# Altium footprint library MCore.PcbLib: 45 footprints (part 2 of 3)
Each footprint in its own frame and in the unit in brackets; x right, y up, seen from the top. Pads: shape width x height; smd on the part's side, far side on the other; paste and mask are expansions set on the pad; w line width, h text height; cw(c..) or ccw(c..) is an arc to the next point about the centre after c.
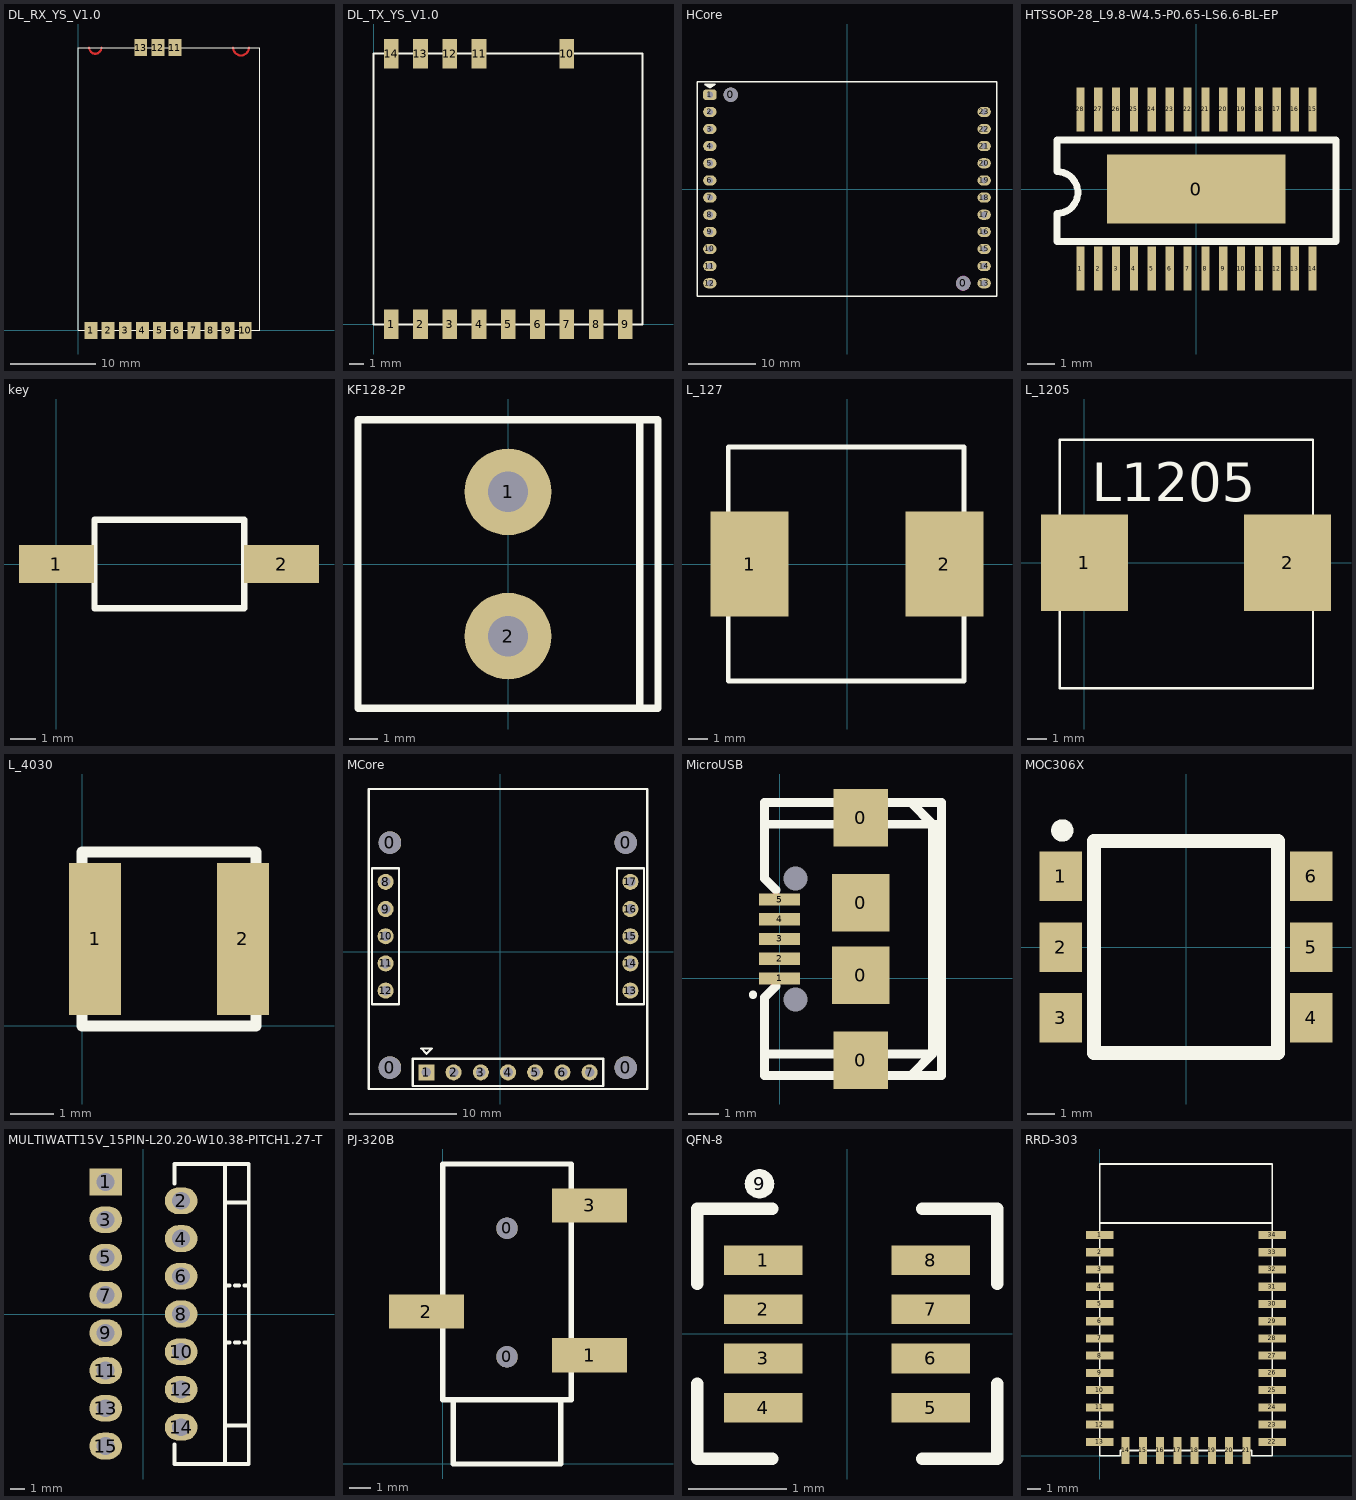
[diagram p1: the footprints below, top view; thin cyan lines are the x and y axes]

## DL_RX_YS_V1.0 [mm]
pads (13):
  rect 1.5x2 smd: 1(1.5,0) 2(3.5,0) 3(5.5,0) 4(7.5,0) 5(9.5,0) 6(11.5,0) 7(13.5,0) 8(15.5,0) 9(17.5,0) 10(19.5,0) 11(11.3,33) 12(9.3,33) 13(7.3,33)
Top Layer:
  lines w0.254: 1.282,33 ccw(c2,33) 2.718,33 ; 18.084,33 ccw(c19,33) 19.916,33
Top Overlay:
  lines w0.127: 0,0 21.2,0 21.2,33 0,33 0,0
3D body: height 1, standoff 0, extent 0,0 21.209,33.02

## DL_TX_YS_V1.0 [mm]
pads (14):
  rect 1x2 smd: 1(1.2,0) 2(3.2,0) 3(5.2,0) 4(7.2,0) 5(9.2,0) 6(11.2,0) 7(13.2,0) 8(15.2,0) 9(17.2,0) 10(13.2,18.5) 11(7.2,18.5) 12(5.2,18.5) 13(3.2,18.5) 14(1.2,18.5)
Top Overlay:
  lines w0.127: 0,0 18.36,0 18.36,18.5 0,18.5 0,0

## HCore [mm]
pads (25):
  round 2.1 hole 2.1: 0(-17.225,13.97) 0(17.225,-13.97)
  rrect50% 2x1.5 hole 0.9: 1(-20.32,13.97)
  oval 2x1.5 hole 0.9: 2(-20.32,11.43) 3(-20.32,8.89) 4(-20.32,6.35) 5(-20.32,3.81) 6(-20.32,1.27) 7(-20.32,-1.27) 8(-20.32,-3.81) 9(-20.32,-6.35) 10(-20.32,-8.89) 11(-20.32,-11.43) 12(-20.32,-13.97) 13(20.32,-13.97) 14(20.32,-11.43) 15(20.32,-8.89) 16(20.32,-6.35) 17(20.32,-3.81) 18(20.32,-1.27) 19(20.32,1.27) 20(20.32,3.81) 21(20.32,6.35) 22(20.32,8.89) 23(20.32,11.43)
Top Overlay:
  region: -21.082,15.494 -19.558,15.494 -20.32,14.986
  lines w0.2: -22.225,-15.875 22.225,-15.875 22.225,15.875 -22.225,15.875 -22.225,-15.875 ; -21.082,15.494 -19.558,15.494 -20.32,14.986 -21.082,15.494
Keep-Out Layer:
  circle w0.1: c17.225,-13.97 r1.05

## HTSSOP-28_L9.8-W4.5-P0.65-LS6.6-BL-EP [mm]
pads (29):
  rect 6.5x2.5 smd: 0(0,0)
  rect 0.3x1.6 smd: 1(-4.225,-2.9) 2(-3.575,-2.9) 3(-2.925,-2.9) 4(-2.275,-2.9) 5(-1.625,-2.9) 6(-0.975,-2.9) 7(-0.325,-2.9) 8(0.325,-2.9) 9(0.975,-2.9) 10(1.625,-2.9) 11(2.275,-2.9) 12(2.925,-2.9) 13(3.575,-2.9) 14(4.225,-2.9) 15(4.225,2.9) 16(3.575,2.9) 17(2.925,2.9) 18(2.275,2.9) 19(1.625,2.9) 20(0.975,2.9) 21(0.325,2.9) 22(-0.325,2.9) 23(-0.975,2.9) 24(-1.625,2.9) 25(-2.275,2.9) 26(-2.925,2.9) 27(-3.575,2.9) 28(-4.225,2.9)
Top Overlay:
  lines w0.254: -5.08,-1.905 5.08,-1.905 5.08,1.778 -5.08,1.778 -5.08,0.635 cw(c-5.08,-0.127) -5.08,-0.889 -5.08,-1.905

## key [mil]
height 196.85
pads (2):
  rect 118.11x60 smd: 1(0,0) 2(355,0)
Top Overlay:
  lines w10: 60,-70 60,70 296.22,70 296.22,-70 60,-70

## KF128-2P [mm]
pads (2):
  round 3 hole 1.4: 1(0,2.5) 2(0,-2.5)
Top Overlay:
  lines w0.254: 4.572,-4.953 4.572,4.953 ; -5.2,-5 -5.2,5 5.2,5 5.2,-5 -5.2,-5

## L_127 [mm]
pads (2):
  rect 4x5.4 smd: 1(-5,0) 2(5,0)
Top Overlay:
  lines w0.254: -6.096,-6 -6.096,6 6,6 6,-6 -6.096,-6

## L_1205 [mm]
height 5
pads (2):
  rect 4.5x5 smd: 1(0,0) 2(10.5,0)
Top Overlay:
  lines w0.127: -1.27,-6.477 11.811,-6.477 11.811,6.35 -1.27,6.35 -1.27,-6.4
  text "L1205" at 0.381,3.175 h2
3D body: height 5, standoff 0.1, extent -1.27,-6.477 11.811,6.35

## L_4030 [mm]
pads (2):
  rect 1.2x3.5 smd: 1(0.3,2) 2(3.7,2)
Top Overlay:
  lines w0.254: 0,0 4,0 4,4 0,4 0,0

## MCore [mm]
pads (21):
  round 2.1 hole 2.1 unplated: 0(-10.268,-10.807) 0(-10.268,10.193) 0(11.732,-10.807) 0(11.732,10.193)
  rect 1.5x1.5 hole 0.9: 1(-6.874,-11.252)
  round 1.5 hole 0.9: 2(-4.334,-11.252) 3(-1.794,-11.252) 4(0.746,-11.252) 5(3.286,-11.252) 6(5.826,-11.252) 7(8.366,-11.252) 8(-10.683,6.528) 9(-10.683,3.988) 10(-10.683,1.448) 11(-10.683,-1.092) 12(-10.683,-3.632) 13(12.177,-3.632) 14(12.177,-1.092) 15(12.177,1.448) 16(12.177,3.988) 17(12.177,6.528)
Top Overlay:
  lines w0.2: -12.253,-12.811 -12.253,15.189 ; -12.243,-12.811 13.732,-12.811 ; -12.243,15.189 13.736,15.189 ; 13.746,-12.807 13.746,15.189 ; -11.953,-4.902 -11.953,7.798 -9.413,7.798 -9.413,-4.902 -11.953,-4.902 ; -8.144,-12.522 -8.144,-9.982 9.636,-9.982 9.636,-12.522 -8.144,-12.522 ; -7.366,-9.017 -6.35,-9.017 -6.858,-9.525 -7.366,-9.017 ; 10.907,-4.902 10.907,7.798 13.447,7.798 13.447,-4.902 10.907,-4.902
Keep-Out Layer:
  lines w0.127: 13.732,-12.791 13.736,-12.787

## MicroUSB [mm] "Connector; USB1.1, Type B, SM; 4 Position; Right Angle"
height 11
pads (11):
  rect 1.8x1.9 smd: 0(2.675,-2.7) 0(2.675,5.3)
  rect 1.9x1.9 smd: 0(2.675,0.1) 0(2.675,2.5)
  rect 1.35x0.4 smd mask+0.001: 1(0,0) 2(0,0.65) 3(0,1.3) 4(0,1.95) 5(0,2.6)
  round 0 hole 0.8 unplated mask+0.001: MH1(0.525,3.3) MH2(0.525,-0.7)
Top Overlay:
  circle w0.25: c-0.881,-0.542 r0.011
  lines w0.3: -0.452,-2.495 5.04,-2.495 ; -0.452,5.094 5.334,5.08 5.04,5.094 ; -0.127,-0.254 -0.5,-0.627 -0.5,-3.209 4.326,-3.209 5.04,-2.495 ; -0.127,2.921 -0.5,3.294 -0.5,5.808 4.326,5.808 5.04,5.094 ; 3.818,5.808 5.334,5.808 5.334,-3.209 3.945,-3.209 ; 5.04,-2.495 5.04,5.094
3D body "AP2014.STEP": height 2.79, standoff -0.28, extent -0.11,-3.091 5.515,5.709

## MOC306X [mm]
pads (6):
  rect 1.52x1.78 smd: 1(-4.5,2.54) 2(-4.5,0) 3(-4.5,-2.54) 4(4.5,-2.54) 5(4.5,0) 6(4.5,2.54)
Top Overlay:
  circle w0.4: c-4.445,4.191 r0.2
  lines w0.508: -3.3,-3.81 3.3,-3.81 3.3,3.81 -3.3,3.81 -3.3,-3.81

## MULTIWATT15V_15PIN-L20.20-W10.38-PITCH1.27-T [mm]
pads (15):
  rect 2.2x1.8 hole 1.2: 1(-2.54,8.89)
  oval 2.2x1.8 hole 1.2: 2(2.54,7.62) 3(-2.54,6.35) 4(2.54,5.08) 5(-2.54,3.81) 6(2.54,2.54) 7(-2.54,1.27) 8(2.54,0) 9(-2.54,-1.27) 10(2.54,-2.54) 11(-2.54,-3.81) 12(2.54,-5.08) 13(-2.54,-6.35) 14(2.54,-7.62) 15(-2.54,-8.89)
Top Overlay:
  lines w0.254: 2.09,-8.786 2.09,-10.1 7.09,-10.1 7.09,10.1 2.09,10.1 2.09,8.786 ; 5.49,-10.1 5.49,10.1 ; 5.49,-7.5 7.09,-7.5 ; 5.49,-1.925 5.79,-1.925 ; 5.49,1.925 5.79,1.925 ; 5.49,7.5 7.09,7.5 ; 6.15,-1.925 6.45,-1.925 ; 6.15,1.925 6.45,1.925 ; 6.79,-1.925 7.09,-1.925 ; 6.79,1.925 7.09,1.925

## PJ-320B [mm]
pads (5):
  round 1 hole 1: 0(3,5) 0(3,11)
  rect 3.5x1.6 smd: 1(6.858,5.08) 2(-0.762,7.112) 3(6.858,12.065)
Top Overlay:
  lines w0.254: 0.5,2.992 0.5,0 5.5,0 5.5,2.961 ; 0,3 0,14 6,14 6,3 0,3

## QFN-8 [mm]
pads (9):
  rect 0.8x0.3 smd: 1(-0.85,0.75) 2(-0.85,0.25) 3(-0.85,-0.25) 4(-0.85,-0.75) 5(0.85,-0.75) 6(0.85,-0.25) 7(0.85,0.25) 8(0.85,0.75)
  round 0.3 on Top Overlay: 9(-0.889,1.524)
Top Overlay:
  lines w0.127: -1.524,-0.508 -1.524,-1.27 -0.762,-1.27 ; -1.524,0.508 -1.524,1.27 -0.762,1.27 ; 0.762,-1.27 1.524,-1.27 1.524,-0.508 ; 0.762,1.27 1.524,1.27 1.524,0.508
3D body: height 1, standoff 0, extent -0.762,-1.27 0.762,1.27

## RRD-303 [mm]
pads (34):
  rect 2x0.6 smd: 1(0,16.27) 2(0,15) 3(0,13.73) 4(0,12.46) 5(0,11.19) 6(0,9.92) 7(0,8.65) 8(0,7.38) 9(0,6.11) 10(0,4.84) 11(0,3.57) 12(0,2.3) 13(0,1.03) 22(12.7,1.03) 23(12.7,2.3) 24(12.7,3.57) 25(12.7,4.84) 26(12.7,6.11) 27(12.7,7.38) 28(12.7,8.65) 29(12.7,9.92) 30(12.7,11.19) 31(12.7,12.46) 32(12.7,13.73) 33(12.7,15) 34(12.7,16.27)
  rect 0.6x2 smd: 14(1.905,0.4) 15(3.175,0.4) 16(4.445,0.4) 17(5.715,0.4) 18(6.985,0.4) 19(8.255,0.4) 20(9.525,0.4) 21(10.795,0.4)
Top Overlay:
  lines w0.127: 0,17.159 12.7,17.159 ; 0,0 0,21.5 12.7,21.5 12.7,0 11.2,0 11.2,0.4 1.5,0.4 1.5,0 0,0
3D body: height 1, standoff 0, extent 0,0 12.7,21.463